# EAGLE library part A3903 (library DubSat1 Components)
Allegro MicroSystems A3903 H-bridge Technical Specifications: Supply voltage: 3-5.5V Operating temperature: -40°C to 85°C Output current: 500mA Digikey: 620-1205-1-ND
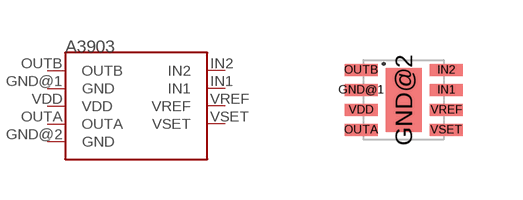
[diagram p6: symbol with the pads of DFN-8EE; footprint DFN-8EE]

Designator prefix U

## A3903  [DFN-8EE]
GND@1  GND  pwr
GND@2  GND  pwr
IN1  IN1  in
IN2  IN2  in
OUTA  OUTA  out
OUTB  OUTB  out
VDD  VDD  pwr
VREF  VREF  pwr
VSET  VSET

## Footprint DFN-8EE (pad centres in mm)
8-contact DFN, suffix EE (2mm x 2mm)
smd 0.83 x 0.3: GND@1 -1.065,0.25; IN1 1.065,0.25; IN2 1.065,0.75; OUTA -1.065,-0.75; OUTB -1.065,0.75; VDD -1.065,-0.25; VREF 1.065,-0.25; VSET 1.065,-0.75
smd 0.9 x 1.6: GND@2 0,0